# EAGLE library part TUSB4041I-Q1 (library My_TI)
TUSB4041I-Q1 Four-Port USB 2.0 Hub Datasheet <http://www.ti.com/lit/ds/symlink/tusb4041i-q1.pdf>
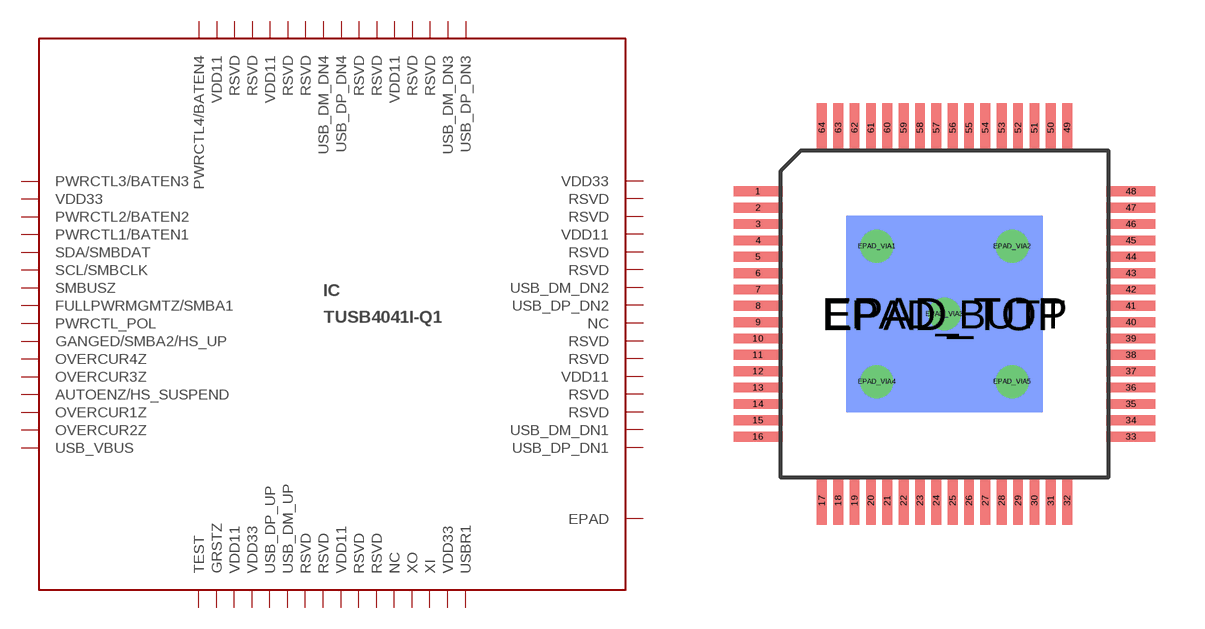
[diagram p22: symbol with the pads of PQFP64_PWRPD; footprint PQFP64_PWRPD]

Designator prefix IC

## TUSB4041I-Q1  [PQFP64_PWRPD]
1  PWRCTL3/BATEN3
2  VDD33  pwr
3  PWRCTL2/BATEN2
4  PWRCTL1/BATEN1
5  SDA/SMBDAT
6  SCL/SMBCLK
7  SMBUSZ
8  FULLPWRMGMTZ/SMBA1
9  PWRCTL_POL
10  GANGED/SMBA2/HS_UP
11  OVERCUR4Z  in
12  OVERCUR3Z  in
13  AUTOENZ/HS_SUSPEND
14  OVERCUR1Z  in
15  OVERCUR2Z  in
16  USB_VBUS  in
17  TEST  in
18  GRSTZ  in
19  VDD11  pwr
20  VDD33  pwr
21  USB_DP_UP
22  USB_DM_UP
23  RSVD
24  RSVD
25  VDD11  pwr
26  RSVD
27  RSVD
28  NC
29  XO  out
30  XI  in
31  VDD33  pwr
32  USBR1  in
33  USB_DP_DN1
34  USB_DM_DN1
35  RSVD
36  RSVD
37  VDD11  pwr
38  RSVD
39  RSVD
40  NC
41  USB_DP_DN2
42  USB_DM_DN2
43  RSVD
44  RSVD
45  VDD11  pwr
46  RSVD
47  RSVD
48  VDD33  pwr
49  USB_DP_DN3
50  USB_DM_DN3
51  RSVD
52  RSVD
53  VDD11  pwr
54  RSVD
55  RSVD
56  USB_DP_DN4
57  USB_DM_DN4
58  RSVD
59  RSVD
60  VDD11  pwr
61  RSVD
62  RSVD
63  VDD11  pwr
64  PWRCTL4/BATEN4
EPAD_BUTT  EPAD
EPAD_TOP  EPAD
EPAD_VIA1  EPAD
EPAD_VIA2  EPAD
EPAD_VIA3  EPAD
EPAD_VIA4  EPAD
EPAD_VIA5  EPAD

## Footprint PQFP64_PWRPD (pad centres in mm)
PQFP64 Auto generated by make-symbol-device-package-bsdl.ulp Rev. 44
smd 1.5 x 0.3: 1 -5.7,3.75; 2 -5.7,3.25; 3 -5.7,2.75; 4 -5.7,2.25; 5 -5.7,1.75; 6 -5.7,1.25; 7 -5.7,0.75; 8 -5.7,0.25; 9 -5.7,-0.25; 10 -5.7,-0.75; 11 -5.7,-1.25; 12 -5.7,-1.75; 13 -5.7,-2.25; 14 -5.7,-2.75; 15 -5.7,-3.25; 16 -5.7,-3.75; 33 5.7,-3.75; 34 5.7,-3.25; 35 5.7,-2.75; 36 5.7,-2.25; 37 5.7,-1.75; 38 5.7,-1.25; 39 5.7,-0.75; 40 5.7,-0.25; 41 5.7,0.25; 42 5.7,0.75; 43 5.7,1.25; 44 5.7,1.75; 45 5.7,2.25; 46 5.7,2.75; 47 5.7,3.25; 48 5.7,3.75
smd 0.3 x 1.5: 17 -3.75,-5.7; 18 -3.25,-5.7; 19 -2.75,-5.7; 20 -2.25,-5.7; 21 -1.75,-5.7; 22 -1.25,-5.7; 23 -0.75,-5.7; 24 -0.25,-5.7; 25 0.25,-5.7; 26 0.75,-5.7; 27 1.25,-5.7; 28 1.75,-5.7; 29 2.25,-5.7; 30 2.75,-5.7; 31 3.25,-5.7; 32 3.75,-5.7; 49 3.75,5.7; 50 3.25,5.7; 51 2.75,5.7; 52 2.25,5.7; 53 1.75,5.7; 54 1.25,5.7; 55 0.75,5.7; 56 0.25,5.7; 57 -0.25,5.7; 58 -0.75,5.7; 59 -1.25,5.7; 60 -1.75,5.7; 61 -2.25,5.7; 62 -2.75,5.7; 63 -3.25,5.7; 64 -3.75,5.7
smd 6 x 6 bottom: EPAD_BUTT 0,0
smd 6 x 6: EPAD_TOP 0,0
drill 0.5: EPAD_VIA1 -2.07,2.07; EPAD_VIA2 2.07,2.07; EPAD_VIA3 0,0; EPAD_VIA4 -2.07,-2.07; EPAD_VIA5 2.07,-2.07